# EAGLE library part TS5A2066DCUR (library edrtech_lib)
TEXAS INSTRUMENTS - TS5A2066DCUR - IC, ANLG SW 10R DUAL SPST 8VSSOP Source: Datasheet <http://www.ti.com/lit/ds/symlink/ts5a2066.pdf>
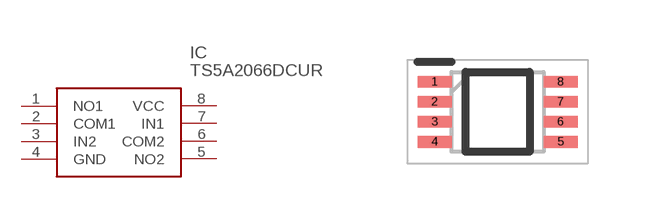
[diagram p50: symbol with the pads of SOP50P310X90-8N; footprint SOP50P310X90-8N]

Designator prefix IC

## TS5A2066DCUR (ARROW_PART_NUMBER: TS5A2066DCUR; ARROW_PRICE-STOCK: https://www.arrow.com/en/products/ts5a2066dcur/texas-instruments; DESCRIPTION: TEXAS INSTRUMENTS - TS5A2066DCUR - IC, ANLG SW 10R DUAL SPST 8VSSOP; HEIGHT: 0.9mm; MANUFACTURER_NAME: Texas Instruments; MANUFACTURER_PART_NUMBER: TS5A2066DCUR; MOUSER_PART_NUMBER: 595-TS5A2066DCUR; MOUSER_PRICE-STOCK: https://www.mouser.com/Search/Refine.aspx?Keyword=595-TS5A2066DCUR)  [SOP50P310X90-8N]
1  NO1
2  COM1
3  IN2
4  GND
5  NO2
6  COM2
7  IN1
8  VCC

## Footprint SOP50P310X90-8N (pad centres in mm)
DCU (R-PDSO-G8)
smd 0.85 x 0.3: 1 -1.575,0.75; 2 -1.575,0.25; 3 -1.575,-0.25; 4 -1.575,-0.75; 5 1.575,-0.75; 6 1.575,-0.25; 7 1.575,0.25; 8 1.575,0.75